# Altium schematic symbol library TSM-106-01-F-SH.SchLib: 1 symbol
Pins are listed as number, name and electrical type; pins without a type are passive.

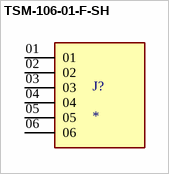
[diagram p0: symbol TSM-106-01-F-SH]

## TSM-106-01-F-SH
designator J?
MF: {'manufacturer': u'Samtec'}; MP: TSM-106-01-F-SH; Availability: Unavailable; Price: None; Value: *; Package: None
footprint SAMTEC_TSM-106-01-F-SH
pins: 01, 02, 03, 04, 05, 06